# Altium integrated library WS2812B.IntLib: 1 symbol
Pins are listed as number, name and electrical type; pins without a type are passive.

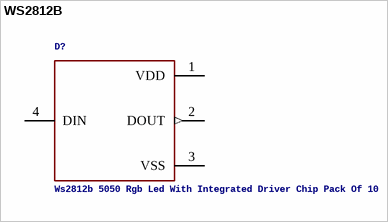
[diagram p0: symbol WS2812B]

## WS2812B
designator D?, comment Ws2812b 5050 Rgb Led With Integrated Driver Chip Pack Of 10
Description: Intelligent Control Led Integrated Light Source Pack Of 10; MF: Adafruit Industries; MP: WS2812B; Package: None; Price: 5.56 USD; Availability: Bad
footprint LED_WS2812B
pins: 1 VDD (power), 2 DOUT (out), 3 VSS, 4 DIN